# Altium schematic symbol library BCR402WH6327XTSA1.SchLib: 1 symbol
Pins are listed as number, name and electrical type; pins without a type are passive.

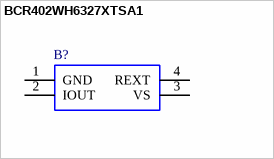
[diagram p0: symbol BCR402WH6327XTSA1]

## BCR402WH6327XTSA1
designator B?
Infineon BCR402WH6327XTSA1 LED Driver IC, 18 V dc 60mA 4-Pin SOT-343; Manufacturer_Name: Infineon; Manufacturer_Part_Number: BCR402WH6327XTSA1; Mouser Part Number: 726-BCR402WH6327XTSA; Mouser Price/Stock: https://www.mouser.co.uk/ProductDetail/Infineon-Technologies/BCR402WH6327XTSA1?qs=K00xGehIljswM5X4feTC6g%3D%3D; Arrow Part Number: BCR402WH6327XTSA1; Arrow Price/Stock: https://www.arrow.com/en/products/bcr402wh6327xtsa1/infineon-technologies-ag?region=nac; Mouser Testing Part Number: *; Mouser Testing Price/Stock: *; Datasheet Link: https://www.infineon.com/dgdl/Infineon-BCR402W-DS-v02_00-en.pdf?fileId=db3a30431400ef68011407c5054c0192
footprint SOT343
pins: 1 GND, 2 IOUT, 3 VS, 4 REXT